# EAGLE library part IC-LPC11U35IF (library mylib)
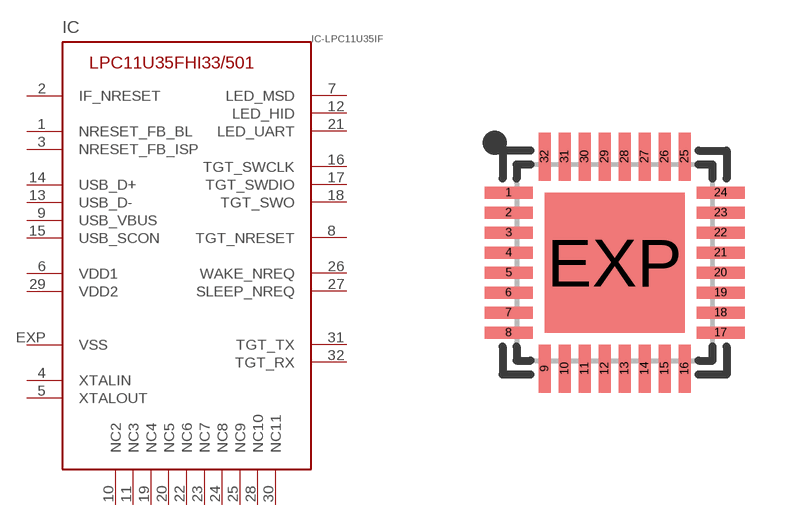
[diagram p99: symbol with the pads of HVQFN33; footprint HVQFN33]

Designator prefix IC

## IC-LPC11U35IF""  [HVQFN33]
1  NRESET_FB_BL
2  IF_NRESET
3  NRESET_FB_ISP
4  XTALIN
5  XTALOUT
6  VDD1
7  LED_MSD
8  TGT_NRESET
9  USB_VBUS
10  NC2
11  NC3
12  LED_HID
13  USB_D-
14  USB_D+
15  USB_SCON
16  TGT_SWCLK
17  TGT_SWDIO
18  TGT_SWO
19  NC4
20  NC5
21  LED_UART
22  NC6
23  NC7
24  NC8
25  NC9
26  WAKE_NREQ
27  SLEEP_NREQ
28  NC10
29  VDD2
30  NC11
31  TGT_TX
32  TGT_RX
EXP  VSS

## Footprint HVQFN33 (pad centres in mm)
HVQFN32 (SOT617-3) 5 x 5 x .85 mm, Pitch 0.5mm Source: http://www.semiconductors.philips.com/acrobat_download/datasheets/TDA9885_TDA9886_2.pdf
smd 1.2 x 0.3: 1 -2.65,1.75; 2 -2.65,1.25; 3 -2.65,0.75; 4 -2.65,0.25; 5 -2.65,-0.25; 6 -2.65,-0.75; 7 -2.65,-1.25; 8 -2.65,-1.75; 17 2.65,-1.75; 18 2.65,-1.25; 19 2.65,-0.75; 20 2.65,-0.25; 21 2.65,0.25; 22 2.65,0.75; 23 2.65,1.25; 24 2.65,1.75
smd 0.3 x 1.2: 9 -1.75,-2.65; 10 -1.25,-2.65; 11 -0.75,-2.65; 12 -0.25,-2.65; 13 0.25,-2.65; 14 0.75,-2.65; 15 1.25,-2.65; 16 1.75,-2.65; 25 1.75,2.65; 26 1.25,2.65; 27 0.75,2.65; 28 0.25,2.65; 29 -0.25,2.65; 30 -0.75,2.65; 31 -1.25,2.65; 32 -1.75,2.65
smd 3.5 x 3.5: EXP 0,0